# EAGLE library part OB115/12 (library trafo)
TRANSFORMER 2 primary winding, 2 secondary windings, mounting holes BLOCK
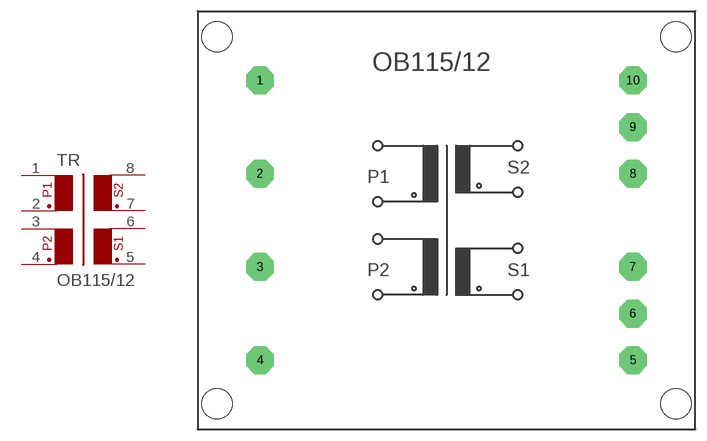
[diagram p51: symbol with the pads of OB115/12; footprint OB115/12]

Designator prefix TR

## OB115/12  [OB115/12]
1  1  pas
2  2  pas
3  3  pas
4  4  pas
5  5  pas
6  6  pas
7  7  pas
8  8  pas

## Footprint OB115/12 (pad centres in mm)
TRANSFORMER 2 primary winding, 2 secondary windings, mounting holes
drill 1.194 pad 3.81 octagon: 1 -25.4,19.05; 2 -25.4,6.35; 3 -25.4,-6.35; 4 -25.4,-19.05; 5 25.4,-19.05; 6 25.4,-12.7; 7 25.4,-6.35; 8 25.4,6.35; 9 25.4,12.7; 10 25.4,19.05
hole 4.115 at -31.267,24.994
hole 4.115 at 31.267,24.994
hole 4.115 at 31.267,-24.994
hole 4.115 at -31.267,-24.994